# Altium footprint library main.PcbLib: 34 footprints (part 1 of 3)
Each footprint in its own frame and in the unit in brackets; x right, y up, seen from the top. Pads: shape width x height; smd on the part's side, far side on the other; paste and mask are expansions set on the pad; w line width, h text height; cw(c..) or ccw(c..) is an arc to the next point about the centre after c.
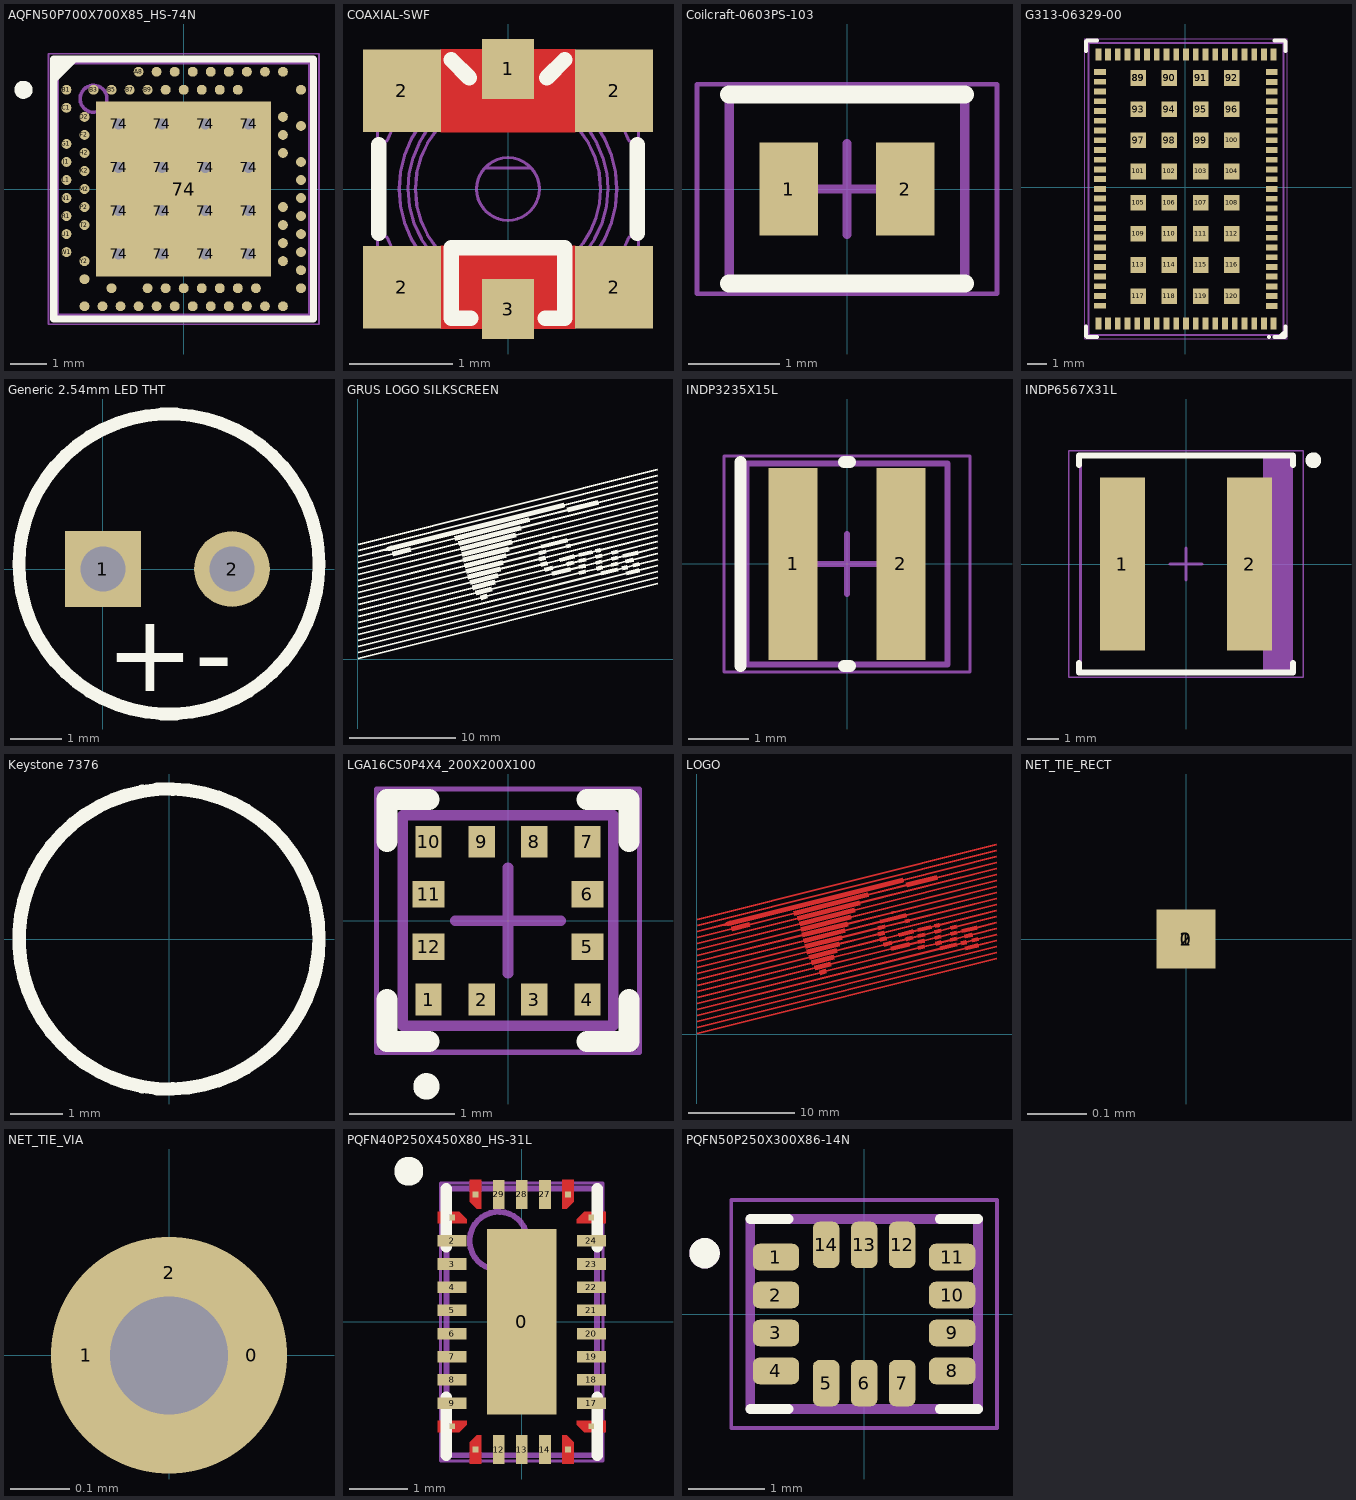
[diagram p0: the footprints below, top view; thin cyan lines are the x and y axes]

## 900-13448-0020-000 [mm] "NVidia Jetson Nano 3D Body"
3D body "P3448_Module.stp": height 4.3, standoff -1.4, extent -69.6,0 0,45

## AQFN50P700X700X85_HS-74N [mm]
pads (90):
  round 0.61 hole 0.305: 74(-1.803,-1.797) 74(-1.803,-0.597) 74(-1.803,0.603) 74(-1.803,1.803) 74(-0.603,-1.797) 74(-0.603,-0.597) 74(-0.603,0.603) 74(-0.603,1.803) 74(0.597,-1.797) 74(0.597,-0.597) 74(0.597,0.603) 74(0.597,1.803) 74(1.797,-1.797) 74(1.797,-0.597) 74(1.797,0.603) 74(1.797,1.803)
  rect 4.85x4.85 smd mask+0.05: 74(0,0)
  round 0.275 smd paste+0.012 mask+0.05: A8(-1.25,3.25) A10(-0.75,3.25) A12(-0.25,3.25) A14(0.25,3.25) A16(0.75,3.25) A18(1.25,3.25) A20(1.75,3.25) A22(2.25,3.25) A23(2.75,3.25) AA24(3.25,-2.25) AB2(-2.75,-2.5) AC5(-2,-2.75) AC9(-1,-2.75) AC11(-0.5,-2.75) AC13(0,-2.75) AC15(0.5,-2.75) AC17(1,-2.75) AC19(1.5,-2.75) AC21(2,-2.75) AC24(3.25,-2.75) AD2(-2.75,-3.25) AD4(-2.25,-3.25) AD6(-1.75,-3.25) AD8(-1.25,-3.25) AD10(-0.75,-3.25) AD12(-0.25,-3.25) AD14(0.25,-3.25) AD16(0.75,-3.25) AD18(1.25,-3.25) AD20(1.75,-3.25) AD22(2.25,-3.25) AD23(2.75,-3.25) B1(-3.25,2.75) B3(-2.5,2.75) B5(-2,2.75) B7(-1.5,2.75) B9(-1,2.75) B11(-0.5,2.75) B13(0,2.75) B15(0.5,2.75) B17(1,2.75) B19(1.5,2.75) B24(3.25,2.75) C1(-3.25,2.25) D2(-2.75,2) D23(2.75,2) E24(3.25,1.75) F2(-2.75,1.5) F23(2.75,1.5) G1(-3.25,1.25) H2(-2.75,1) H23(2.75,1) J1(-3.25,0.75) J24(3.25,0.75) K2(-2.75,0.5) L1(-3.25,0.25) L24(3.25,0.25) M2(-2.75,0) N1(-3.25,-0.25) N24(3.25,-0.25) P2(-2.75,-0.5) P23(2.75,-0.5) R1(-3.25,-0.75) R24(3.25,-0.75) T2(-2.75,-1) T23(2.75,-1) U1(-3.25,-1.25) U24(3.25,-1.25) V23(2.75,-1.5) W1(-3.25,-1.75) W24(3.25,-1.75) Y2(-2.75,-2) Y23(2.75,-2)
Top Overlay:
  circle w0.25: c-4.44,2.75 r0.125
  region: -3,3.5 -3.5,3 -3.5,3.5
  lines w0.2: -3.6,-3.6 -3.6,3.6 3.6,3.6 3.6,-3.6 -3.6,-3.6
Mechanical 7:
  circle w0.1: c-2.5,2.5 r0.373
  lines w0.1: -3.5,-3.5 3.5,-3.5 3.5,3.5 -3.5,3.5 -3.5,-3.5
  text ".Designator" at -0.178,-0.152 h0.3
Mechanical 15:
  lines w0.05: -3.75,-3.75 -3.75,3.75 3.75,3.75 3.75,-3.75 -3.75,-3.75
  lines w0.1: -0.5,0 0.5,0 ; 0,-0.5 0,0.5
3D body "LGA88C25P25X25_700X700X85.step": height 0.85, standoff 0, extent -3.55,-3.55 3.55,3.55

## COAXIAL-SWF [mm]
pads (6):
  rect 0.5x0.58 smd: 1(0,1.16) 3(0,-1.16)
  rect 0.75x0.8 smd: 2(-1.025,-0.95) 2(-1.025,0.95) 2(1.025,-0.95) 2(1.025,0.95)
Top Layer:
  pour cut-out: -0.65,0.55 0.65,0.55 0.65,1.35 -0.65,1.35
  pour cut-out: 0.65,-0.55 -0.65,-0.55 -0.65,-1.35 0.65,-1.35
Top Overlay:
  lines w0.15: -1.25,-0.43 -1.25,0.43 ; -0.55,1.25 -0.375,1.075 ; -0.36,-1.25 -0.55,-1.25 -0.55,-0.57 0.55,-0.57 0.55,-1.25 0.36,-1.25 ; 0.375,1.075 0.55,1.25 ; 1.25,-0.43 1.25,0.43
Mechanical 7:
  drawing of 206 lines, arcs and shapes, not listed
  text ".Designator" at -0.236,-0.726 h0.3
3D body: height 0.15, standoff 0, extent -0.227,-1.301 0.227,-0.758
3D body: height 0.15, standoff 0, extent -0.227,0.899 0.227,1.299
3D body: height 0.6, standoff 0.55, extent -1.262,-1.248 1.262,1.251
3D body: height 1.4, standoff 0.6, extent -0.9,-0.9 0.9,0.901
3D body: height 0.75, standoff 0.6, extent -1.05,-1.049 1.05,1.05
3D body: height 0.95, standoff 0.75, extent -1,-0.999 1,1.001
3D body: height 0.6, standoff 0, extent 0.757,0.655 1.262,1.249
3D body: height 0.6, standoff 0, extent 0.757,-1.246 1.262,-0.653
3D body: height 0.6, standoff 0, extent -1.262,-1.25 -0.757,-0.649
3D body: height 0.6, standoff 0, extent -1.262,0.655 -0.757,1.248
3D body: height 0.55, standoff 0.1, extent -1.262,-1.252 1.262,1.253
3D body: height 0.9, standoff 0.6, extent -1.05,-1.049 1.05,1.05
3D body: height 1.25, standoff 0.95, extent -1.05,-1.049 1.05,1.05
3D body: height 1.55, standoff 1.25, extent -1.05,-1.05 1.05,1.05

## Coilcraft-0603PS-103 [mm] "Chip Inductor, 2-Leads, Body 2.59x2.08mm, IPC High Density"
height 1.8
pads (2):
  rect 0.64x1.02 smd: 1(-0.64,0) 2(0.64,0)
Top Overlay:
  lines w0.2: -1.295,-1.04 1.295,-1.04 ; -1.295,1.04 1.295,1.04
Mechanical 13:
  lines w0.1: -1.295,-1.04 -1.295,1.04 1.295,1.04 1.295,-1.04 -1.295,-1.04
Mechanical 15:
  lines w0.05: -1.65,-1.15 -1.65,1.15 1.65,1.15 1.65,-1.15 -1.65,-1.15
  lines w0.1: -0.5,0 0.5,0 ; 0,-0.5 0,0.5
3D body "Coilcraft-0603PS.STEP": height 1.81, standoff 0.01, extent -1.31,-1.041 1.31,1.042

## G313-06329-00 [mm]
pads (130):
  rect 0.3x0.6 smd: 1(4.55,-7) 1(4.55,-7) 1(4.55,-7) 2(4.05,-7) 3(3.55,-7) 4(3.05,-7) 5(2.55,-7) 6(2.05,-7) 7(1.55,-7) 8(1.05,-7) 9(0.55,-7) 10(0.05,-7) 11(-0.45,-7) 12(-0.95,-7) 13(-1.45,-7) 14(-1.95,-7) 15(-2.45,-7) 16(-2.95,-7) 17(-3.45,-7) 18(-3.95,-7) 19(-4.45,-7) 45(-4.45,6.8) 45(-4.45,6.8) 46(-3.95,6.8) 47(-3.45,6.8) 48(-2.95,6.8) 49(-2.45,6.8) 50(-1.95,6.8) 51(-1.45,6.8) 52(-0.95,6.8) 53(-0.45,6.8) 54(0.05,6.8) 55(0.55,6.8) 56(1.05,6.8) 57(1.55,6.8) 58(2.05,6.8) 59(2.55,6.8) 60(3.05,6.8) 61(3.55,6.8) 62(4.05,6.8) 63(4.55,6.8)
  rect 0.6x0.3 smd: 20(-4.361,-6.095) 20(-4.361,-6.095) 21(-4.361,-5.595) 22(-4.361,-5.095) 23(-4.361,-4.595) 24(-4.361,-4.095) 25(-4.361,-3.595) 26(-4.361,-3.095) 27(-4.361,-2.595) 28(-4.361,-2.095) 29(-4.361,-1.595) 30(-4.361,-1.095) 31(-4.361,-0.595) 32(-4.361,-0.095) 33(-4.361,0.405) 34(-4.361,0.905) 35(-4.361,1.405) 36(-4.361,1.905) 37(-4.361,2.405) 38(-4.361,2.905) 39(-4.361,3.405) 40(-4.361,3.905) 41(-4.361,4.405) 42(-4.361,4.905) 43(-4.361,5.405) 44(-4.361,5.905) 64(4.45,5.9) 64(4.45,5.9) 65(4.45,5.4) 66(4.45,4.9) 67(4.45,4.4) 68(4.45,3.9) 69(4.45,3.4) 70(4.45,2.9) 71(4.45,2.4) 72(4.45,1.9) 73(4.45,1.4) 74(4.45,0.9) 75(4.45,0.4) 76(4.45,-0.1) 77(4.45,-0.6) 78(4.45,-1.1) 79(4.45,-1.6) 80(4.45,-2.1) 81(4.45,-2.6) 82(4.45,-3.1) 83(4.45,-3.6) 84(4.45,-4.1) 85(4.45,-4.6) 86(4.45,-5.1) 87(4.45,-5.6) 88(4.45,-6.1)
  rect 0.8x0.8 smd: 89(-2.4,5.6) 89(-2.4,5.6) 89(-2.4,5.6) 90(-0.8,5.6) 90(-0.8,5.6) 91(0.8,5.6) 91(0.8,5.6) 92(2.4,5.6) 92(2.4,5.6) 93(-2.4,4) 94(-0.8,4) 95(0.8,4) 96(2.4,4) 97(-2.4,2.4) 98(-0.8,2.4) 99(0.8,2.4) 100(2.4,2.4) 101(-2.4,0.8) 102(-0.8,0.8) 103(0.8,0.8) 104(2.4,0.8) 105(-2.4,-0.8) 106(-0.8,-0.8) 107(0.8,-0.8) 108(2.4,-0.8) 109(-2.4,-2.4) 110(-0.8,-2.4) 111(0.8,-2.4) 112(2.4,-2.4) 113(-2.4,-4) 114(-0.8,-4) 115(0.8,-4) 116(2.4,-4) 117(-2.4,-5.6) 118(-0.8,-5.6) 119(0.8,-5.6) 120(2.4,-5.6)
Top Overlay:
  lines w0.05: 4.85,-7.7 5.15,-7.7
  lines w0.2: -5.075,-7.15 -5.075,-7.65 -5.025,-7.7 -4.525,-7.7 ; -5.075,6.975 -5.075,7.475 -5.025,7.525 -4.525,7.525 ; 4.3,-7.7 4.325,-7.7 ; 4.6,-7.7 5.1,-7.7 5.15,-7.65 5.15,-7.15 ; 4.6,7.525 5.1,7.525 5.15,7.475 5.15,6.975 ; 4.85,-7.7 5.15,-7.4 ; 5,-7.7 5,-7.55 5.15,-7.4 ; 5.15,-7.4 5.15,-7.4
Mechanical 13:
  lines w0.1: -4.95,-7.6 5.05,-7.6 5.05,7.4 -4.95,7.4 -4.95,-7.6
Mechanical 15:
  lines w0.05: -5.15,-7.8 -5.15,7.4 -5.15,7.6 5.05,7.6 5.25,7.6 5.25,-7.8 5.05,-7.8 -4.95,-7.8 -5.15,-7.8
3D body: height 1.5, standoff 0.05, extent -4.956,-7.595 5.044,7.405

## Generic 2.54mm LED THT [mil]
pads (2):
  rect 58.62x58.62 hole 35: 1(0,0)
  round 58.62 hole 35: 2(100,0)
Top Overlay:
  circle w10: c51.18,3.94 r116.14
  text "+-" at 2.13,-94.48 h60
3D body "Led.stp": height 992.64, standoff -373.5, extent -62.99,-110.24 165.05,117.81

## GRUS LOGO SILKSCREEN [mm]
Top Overlay:
  drawing of 20 lines, arcs and shapes, not listed

## INDP3235X15L [mm] "Precision Wire Wound Inductor, 2-Leads, Body 3.20x3.50mm, IPC High Density"
height 1.5
pads (2):
  rect 0.81x3.2 smd: 1(-0.9,0) 2(0.9,0)
Top Overlay:
  lines w0.2: -1.778,-1.7 -1.778,1.7 ; -0.05,-1.7 0.05,-1.7 ; -0.05,1.7 0.05,1.7
Mechanical 13:
  lines w0.1: -1.675,-1.675 1.675,-1.675 1.675,1.675 -1.675,1.675 -1.675,-1.675
Mechanical 15:
  lines w0.05: -2.05,-1.8 2.05,-1.8 2.05,1.8 -2.05,1.8 -2.05,-1.8
  lines w0.1: -0.5,0 0.5,0 ; 0,-0.5 0,0.5
3D body "INDP3235X15L.step": height 1.6, standoff 0, extent -1.75,-1.75 1.75,1.75

## INDP6567X31L [mm] "Precision Wire Wound Inductor, 2-Leads, Body 6.51x6.71mm, IPC High Density"
height 3.1
pads (2):
  rect 1.43x5.5 smd: 1(-2.02,0) 2(2.02,0)
Top Overlay:
  circle w0.25: c4.05,3.3 r0.125
  lines w0.2: -3.4,-3.15 -3.4,-3.45 3.4,-3.45 3.4,-3.15 ; -3.4,3.15 -3.4,3.45 3.4,3.45 3.4,3.15
Mechanical 13:
  rectangle: 2.453,-3.455 3.355,3.455
  lines w0.1: -3.355,-3.455 -3.355,3.455 3.355,3.455 3.355,-3.455 -3.355,-3.455
Mechanical 15:
  lines w0.05: -3.725,-3.6 -3.725,3.6 3.725,3.6 3.725,-3.6 -3.725,-3.6
  lines w0.1: -0.5,0 0.5,0 ; 0,-0.5 0,0.5
3D body "Coilcraft-XGL6030.STEP": height 3.11, standoff 0.01, extent -3.355,-3.455 3.355,3.455

## Keystone 7376 [mm]
height 16.5
Top Overlay:
  circle w0.254: c0,0 r2.843
3D body "keystone-PN7376.STEP": height 16.51, standoff 0, extent -2.502,-2.502 2.502,2.502

## LGA16C50P4X4_200X200X100 [mm] "LGA, 16-Leads, Body 2.00x2.00mmx1.00mm, Pitch 0.50mm"
height 1
pads (12):
  rect 0.25x0.3 smd mask+0.05: 1(-0.755,-0.75) 2(-0.25,-0.75) 3(0.25,-0.75) 4(0.755,-0.75) 7(0.755,0.75) 8(0.25,0.75) 9(-0.25,0.75) 10(-0.755,0.75)
  rect 0.3x0.25 smd mask+0.05: 5(0.755,-0.25) 6(0.755,0.25) 11(-0.755,0.25) 12(-0.755,-0.25)
Top Overlay:
  circle w0.2: c-0.775,-1.575 r0.025
  lines w0.2: -1.15,-0.75 -1.15,-1.15 -0.75,-1.15 ; -1.15,0.75 -1.15,1.15 -0.75,1.15 ; 0.75,-1.15 1.15,-1.15 1.15,-0.75 ; 0.75,1.15 1.15,1.15 1.15,0.75
Mechanical 13:
  lines w0.1: -1,-1 1,-1 1,1 -1,1 -1,-1
Mechanical 15:
  lines w0.05: -1.25,-1.25 1.25,-1.25 1.25,1.25 -1.25,1.25 -1.25,-1.25
  lines w0.1: -0.5,0 0.5,0 ; 0,-0.5 0,0.5
3D body: height 1, standoff 0.18, extent -1,-1 1,1

## LOGO [mm]
Top Layer:
  drawing of 20 lines, arcs and shapes, not listed

## NET_TIE_RECT [mm]
pads (3):
  rect 0.1x0.1 / inner rect 0x0 / far side rect 0x0 all layers, no hole paste+0 mask-0.04: 0(0,0) 1(0,0) 2(0,0)

## NET_TIE_VIA [mm]
pads (3):
  rect 0.1x0.1 / inner rect 0x0 / far side rect 0x0 all layers, no hole paste+0 mask-0.04: 0(0.14,0) 1(-0.14,0) 2(0,0.14)
via 0,0 diameter 0.4 hole 0.2

## PQFN40P250X450X80_HS-31L [mm] "PQFN, 30-Leads, Body 2.50x4.50mm, Pitch 0.40mm, Thermal Pad 1.20x3.20mm, IPC High Density"
height 0.8
pads (31):
  rect 1.2x3.2 smd paste+0.05: 0(0,0)
  rect 0.1x0.1 smd paste+0 mask+0: 1(-1.2,1.8) 10(-1.2,-1.8) 11(-0.8,-2.2) 15(0.8,-2.2) 16(1.2,-1.8) 25(1.2,1.8) 26(0.8,2.2) 30(-0.8,2.2)
  rect 0.5x0.2 smd paste+0.05: 2(-1.2,1.4) 3(-1.2,1) 4(-1.2,0.6) 5(-1.2,0.2) 6(-1.2,-0.2) 7(-1.2,-0.6) 8(-1.2,-1) 9(-1.2,-1.4) 17(1.2,-1.4) 18(1.2,-1) 19(1.2,-0.6) 20(1.2,-0.2) 21(1.2,0.2) 22(1.2,0.6) 24(1.2,1.4)
  rect 0.2x0.5 smd paste+0.05: 12(-0.4,-2.2) 13(0,-2.2) 14(0.4,-2.2) 27(0.4,2.2) 28(0,2.2) 29(-0.4,2.2)
  rrect0% 0.5x0.2 smd paste+0.05: 23(1.2,1)
Top Layer:
  region: 0.7,2.45 0.7,1.95 0.775,1.95 0.9,2.075 0.9,2.45
  region: 1.45,1.7 0.95,1.7 0.95,1.775 1.075,1.9 1.45,1.9
  region: 0.7,-2.45 0.7,-1.95 0.775,-1.95 0.9,-2.075 0.9,-2.45
  region: 1.45,-1.7 0.95,-1.7 0.95,-1.775 1.075,-1.9 1.45,-1.9
  region: -1.45,-1.7 -0.95,-1.7 -0.95,-1.775 -1.075,-1.9 -1.45,-1.9
  region: -0.7,-2.45 -0.7,-1.95 -0.775,-1.95 -0.9,-2.075 -0.9,-2.45
  region: -1.45,1.7 -0.95,1.7 -0.95,1.775 -1.075,1.9 -1.45,1.9
  region: -0.7,2.45 -0.7,1.95 -0.775,1.95 -0.9,2.075 -0.9,2.45
Top Overlay:
  circle w0.25: c-1.95,2.6 r0.125
  lines w0.2: -1.3,-2.3 -1.3,-1.3 ; -1.3,1.3 -1.3,2.3 ; 1.3,-2.3 1.3,-1.3 ; 1.3,1.3 1.3,2.3
Mechanical 13:
  circle w0.1: c-0.4,1.4 r0.5
  lines w0.1: -1.3,-2.3 -1.3,2.3 1.3,2.3 1.3,-2.3 -1.3,-2.3
Mechanical 15:
  lines w0.05: -1.4,-2.4 -1.4,2.4 1.4,2.4 1.4,-2.4 -1.4,-2.4
  lines w0.1: -0.5,0 0.5,0 ; 0,-0.5 0,0.5
3D body: height 0.8, standoff 0, extent -1.3,-2.3 1.3,2.3

## PQFN50P250X300X86-14N [mm]
pads (14):
  rrect50% 0.61x0.35 smd: 1(-1.16,0.75) 2(-1.16,0.25) 3(-1.16,-0.25) 4(-1.16,-0.75) 8(1.16,-0.75) 9(1.16,-0.25) 10(1.16,0.25) 11(1.16,0.75)
  rrect50% 0.35x0.61 smd: 5(-0.5,-0.91) 6(0,-0.91) 7(0.5,-0.91) 12(0.5,0.91) 13(0,0.91) 14(-0.5,0.91)
Top Overlay:
  circle w0.2: c-2.1,0.8 r0.1
  lines w0.127: -1.5,-1.25 -0.995,-1.25 ; -1.5,1.25 -0.995,1.25 ; 0.995,-1.25 1.5,-1.25 ; 0.995,1.25 1.5,1.25
Mechanical 13:
  circle w0.2: c-2.1,0.8 r0.1
  lines w0.127: -1.5,-1.25 -1.5,1.25 1.5,1.25 1.5,-1.25 -1.5,-1.25
Mechanical 15:
  lines w0.05: -1.75,-1.5 1.75,-1.5 1.75,1.5 -1.75,1.5 -1.75,-1.5
3D body "step_temp.STEP": height 0.86, standoff 0, extent -1.5,-1.25 1.5,1.25